# EAGLE library part HEADER-2X06 (library Header and Connector)
Header - 2X06
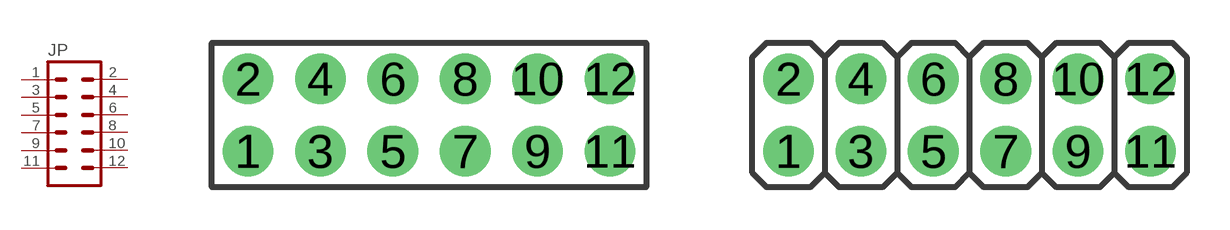
[diagram p11: symbol with the pads of HDR-F2X06; footprints HDR-F2X06, HDR-M2X06]

Designator prefix JP

## HEADER-2X06_(FEMALE) (CYTRON-PC: CN-PH-F240S; DESC: Female Header - 2x40 Ways; VALUE: 6/40 Ways)  [HDR-F2X06]
1  1  pas
2  2  pas
3  3  pas
4  4  pas
5  5  pas
6  6  pas
7  7  pas
8  8  pas
9  9  pas
10  10  pas
11  11  pas
12  12  pas

## HEADER-2X06_(MALE) (DESC: MALE HEADER - 2X40WAYS; VALUE: 6/40 WAYS)  [HDR-M2X06]
Pads as for HDR-F2X06

## Footprint HDR-F2X06 (pad centres in mm)
Female Header - 2X06
drill 1.016 pad 1.778: 1 0,0; 2 0,2.54; 3 2.54,0; 4 2.54,2.54; 5 5.08,0; 6 5.08,2.54; 7 7.62,0; 8 7.62,2.54; 9 10.16,0; 10 10.16,2.54; 11 12.7,0; 12 12.7,2.54

## Footprint HDR-M2X06 (pad centres in mm)
drill 1.016 pad 1.778: 1 0,-2.54; 2 0,0; 3 2.54,-2.54; 4 2.54,0; 5 5.08,-2.54; 6 5.08,0; 7 7.62,-2.54; 8 7.62,0; 9 10.16,-2.54; 10 10.16,0; 11 12.7,-2.54; 12 12.7,0